# EAGLE library part ADSP-BF706BCPZ-4 (library DSPs)
IC DSP LP 1024KB L2SR 88LFCSP Manufacturer's datasheet <https://www.analog.com/media/en/technical-documentation/data-sheets/ADSP-BF700_BF701_BF702_BF703_BF704_BF705_BF706_BF707.pdf>
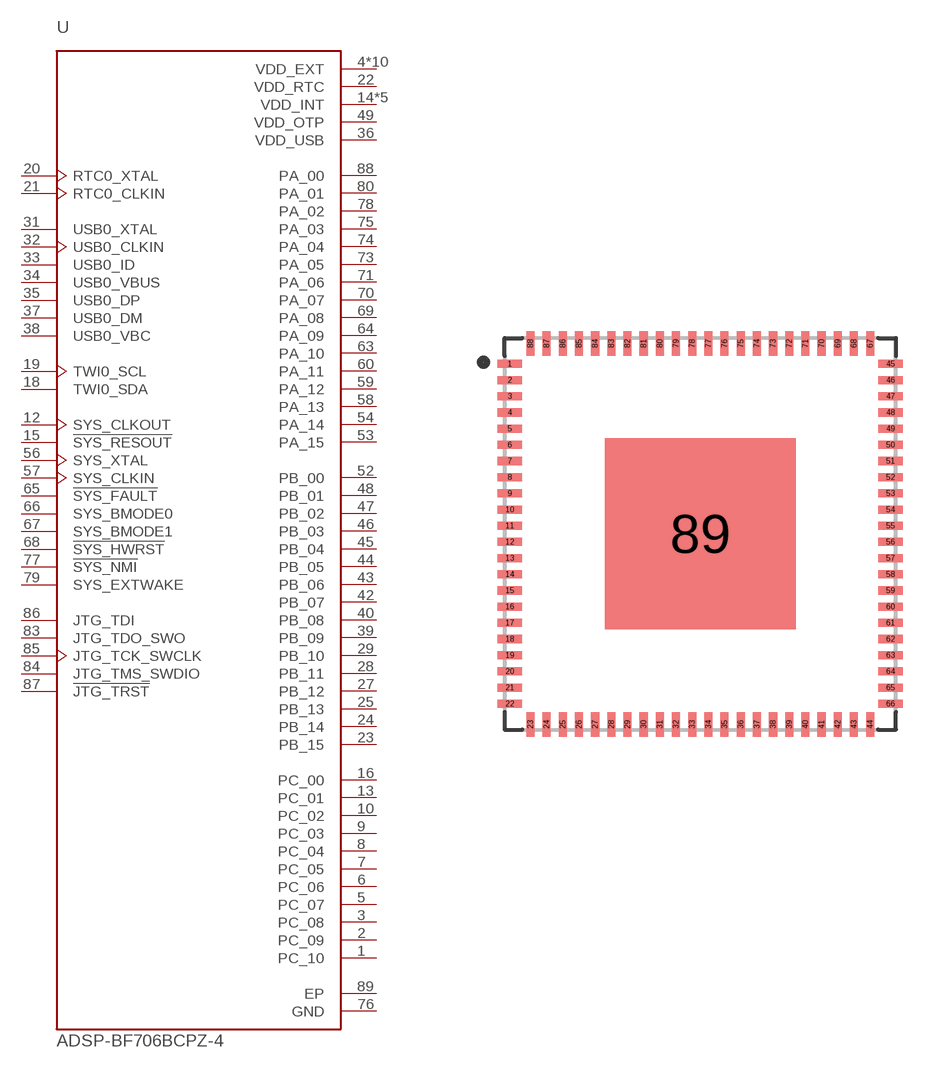
[diagram p2: symbol with the pads of LFCSP-88; footprint LFCSP-88]

Designator prefix U

## ADSP-BF706BCPZ-4 (CREATED_BY: PCBLayout.com; DIGIKEY_PN: ADSP-BF706BCPZ-4-ND; MANUFACTURER: Analog Devices Inc.; MPN: ADSP-BF706BCPZ-4; PACKAGE: LFCSP-88)  [LFCSP-88]
1  PC_10
2  PC_09
3  PC_08
4  VDD_EXT  pwr
5  PC_07
6  PC_06
7  PC_05
8  PC_04
9  PC_03
10  PC_02
11  VDD_EXT  pwr
12  SYS_CLKOUT  out
13  PC_01
14  VDD_INT  pwr
15  !SYS_RESOUT  out
16  PC_00
17  VDD_EXT  pwr
18  TWI0_SDA
19  TWI0_SCL
20  RTC0_XTAL  in
21  RTC0_CLKIN  in
22  VDD_RTC  pwr
23  PB_15
24  PB_14
25  PB_13
26  VDD_EXT  pwr
27  PB_12
28  PB_11
29  PB_10
30  VDD_INT  pwr
31  USB0_XTAL  out
32  USB0_CLKIN  in
33  USB0_ID  in
34  USB0_VBUS
35  USB0_DP
36  VDD_USB  pwr
37  USB0_DM
38  USB0_VBC  out
39  PB_09
40  PB_08
41  VDD_EXT  pwr
42  PB_07
43  PB_06
44  PB_05
45  PB_04
46  PB_03
47  PB_02
48  PB_01
49  VDD_OTP  pwr
50  VDD_EXT  pwr
51  VDD_INT  pwr
52  PB_00
53  PA_15
54  PA_14
55  VDD_EXT  pwr
56  SYS_XTAL  in
57  SYS_CLKIN  in
58  PA_13
59  PA_12
60  PA_11
61  VDD_INT  pwr
62  VDD_EXT  pwr
63  PA_10
64  PA_09
65  !SYS_FAULT
66  SYS_BMODE0  in
67  SYS_BMODE1  in
68  !SYS_HWRST  in
69  PA_08
70  PA_07
71  PA_06
72  VDD_EXT  pwr
73  PA_05
74  PA_04
75  PA_03
76  GND  pwr
77  !SYS_NMI  in
78  PA_02
79  SYS_EXTWAKE  out
80  PA_01
81  VDD_INT  pwr
82  VDD_EXT  pwr
83  JTG_TDO_SWO
84  JTG_TMS_SWDIO
85  JTG_TCK_SWCLK  in
86  JTG_TDI  in
87  !JTG_TRST  in
88  PA_00
89  EP  pwr

## Footprint LFCSP-88 (pad centres in mm)
smd 0.76 x 0.25: 1 -5.885,5.25; 2 -5.885,4.75; 3 -5.885,4.25; 4 -5.885,3.75; 5 -5.885,3.25; 6 -5.885,2.75; 7 -5.885,2.25; 8 -5.885,1.75; 9 -5.885,1.25; 10 -5.885,0.75; 11 -5.885,0.25; 12 -5.885,-0.25; 13 -5.885,-0.75; 14 -5.885,-1.25; 15 -5.885,-1.75; 16 -5.885,-2.25; 17 -5.885,-2.75; 18 -5.885,-3.25; 19 -5.885,-3.75; 20 -5.885,-4.25; 21 -5.885,-4.75; 22 -5.885,-5.25; 45 5.885,5.25; 46 5.885,4.75; 47 5.885,4.25; 48 5.885,3.75; 49 5.885,3.25; 50 5.885,2.75; 51 5.885,2.25; 52 5.885,1.75; 53 5.885,1.25; 54 5.885,0.75; 55 5.885,0.25; 56 5.885,-0.25; 57 5.885,-0.75; 58 5.885,-1.25; 59 5.885,-1.75; 60 5.885,-2.25; 61 5.885,-2.75; 62 5.885,-3.25; 63 5.885,-3.75; 64 5.885,-4.25; 65 5.885,-4.75; 66 5.885,-5.25
smd 0.25 x 0.76: 23 -5.25,-5.885; 24 -4.75,-5.885; 25 -4.25,-5.885; 26 -3.75,-5.885; 27 -3.25,-5.885; 28 -2.75,-5.885; 29 -2.25,-5.885; 30 -1.75,-5.885; 31 -1.25,-5.885; 32 -0.75,-5.885; 33 -0.25,-5.885; 34 0.25,-5.885; 35 0.75,-5.885; 36 1.25,-5.885; 37 1.75,-5.885; 38 2.25,-5.885; 39 2.75,-5.885; 40 3.25,-5.885; 41 3.75,-5.885; 42 4.25,-5.885; 43 4.75,-5.885; 44 5.25,-5.885; 67 5.25,5.885; 68 4.75,5.885; 69 4.25,5.885; 70 3.75,5.885; 71 3.25,5.885; 72 2.75,5.885; 73 2.25,5.885; 74 1.75,5.885; 75 1.25,5.885; 76 0.75,5.885; 77 0.25,5.885; 78 -0.25,5.885; 79 -0.75,5.885; 80 -1.25,5.885; 81 -1.75,5.885; 82 -2.25,5.885; 83 -2.75,5.885; 84 -3.25,5.885; 85 -3.75,5.885; 86 -4.25,5.885; 87 -4.75,5.885; 88 -5.25,5.885
smd 5.9 x 5.9: 89 0,0